# Altium integrated library Crystals and Oscillators.IntLib: 4 symbols
Pins are listed as number, name and electrical type; pins without a type are passive.

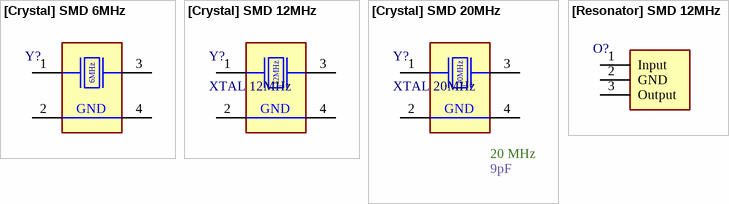
[diagram p0: symbols [Crystal] SMD 6MHz to [Resonator] SMD 12MHz]

## [Crystal] SMD 6MHz
designator Y?  (value not drawn)
ECS-060-18-20BM-JEN-TR; Supplier 1: DigiKey; Supplier Part Number 1: XC2349DKR-ND
footprint [Crystal] SMD 6MHz (ECS-060-18-20BM-JEN-TR)
pins: 1 XTAL1 (power), 2 GND (power), 3 XTAL2 (power), 4 GND (power)
text: 6MHz

## [Crystal] SMD 12MHz
designator Y?, comment XTAL 12MHz
815-ABM8-272-T3; Supplier 1: DigiKey; Supplier Part Number 1: 535-ABM8-272-T3CT-ND
footprint [Crystal] SMD 12MHz
pins: 1 XTAL1 (power), 2 GND (power), 3 XTAL2 (power), 4 GND (power)
text: 12MHz

## [Crystal] SMD 20MHz
designator Y?, comment XTAL 20MHz  Load Capacitance: 9pF  Frequency: 20 MHz
TSX-3225 20.0000MF20G-AC3; Supplier 1: DigiKey; Supplier Part Number 1: SER3629CT-ND
footprint [Crystal] SMD 20MHz (TSX-3225 20.0000MF20G-AC3)
pins: 1 XTAL1 (power), 2 GND (power), 3 XTAL2 (power), 4 GND (power)
text: 20MHz

## [Resonator] SMD 12MHz
designator O?, comment XOSC 12MHz  (value not drawn)
CSTNE12M0GH5L000R0; Supplier 1: DigiKey; Supplier Part Number 1: 490-17947-1-ND
footprint [Resonator] SMD 12MHz
pins: 1 Input, 2 GND, 3 Output